# Altium footprint library Diode.PcbLib: 23 footprints (part 2 of 2)
Each footprint in its own frame and in the unit in brackets; x right, y up, seen from the top. Pads: shape width x height; smd on the part's side, far side on the other; paste and mask are expansions set on the pad; w line width, h text height; cw(c..) or ccw(c..) is an arc to the next point about the centre after c.
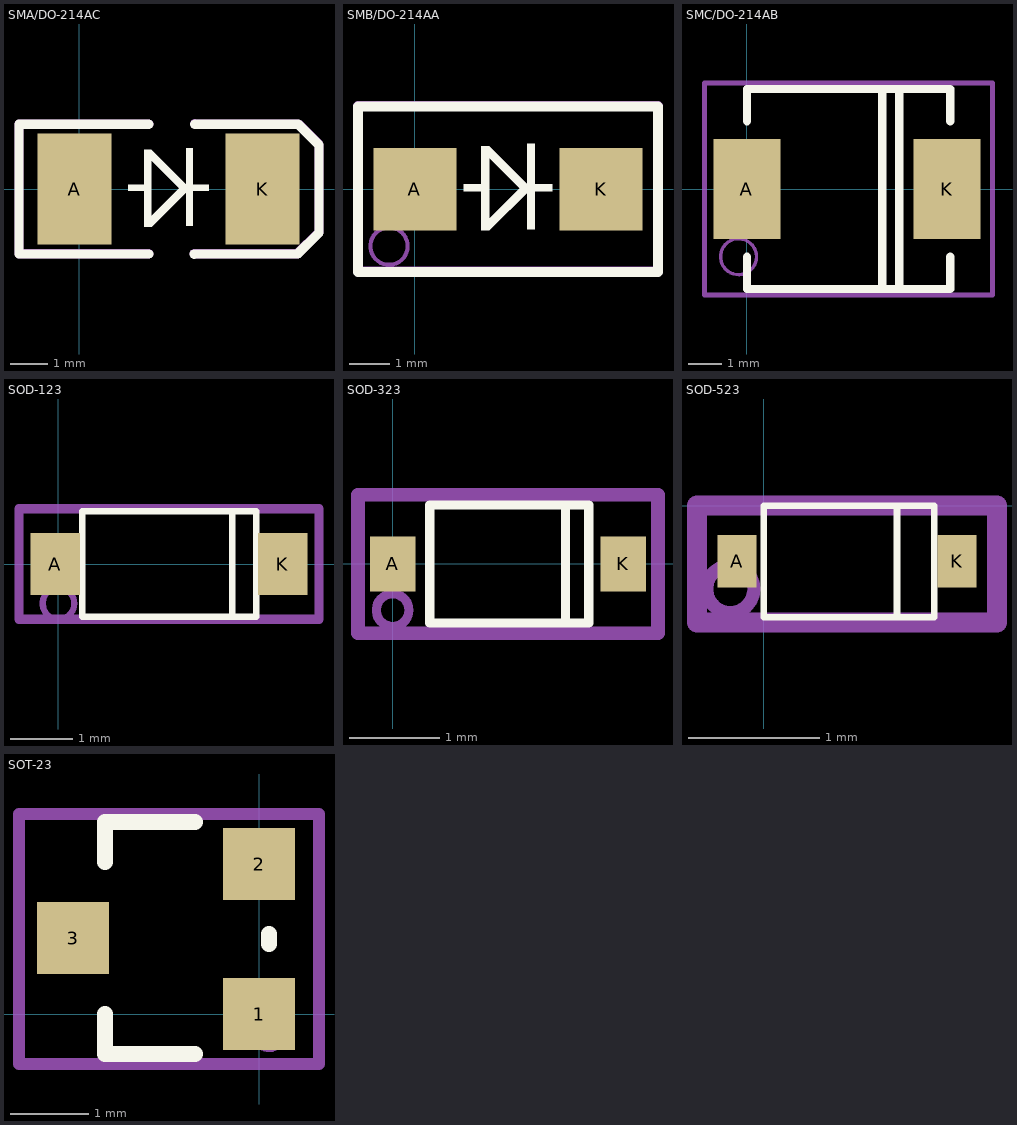
[diagram p1: the footprints below, top view; thin cyan lines are the x and y axes]

## SMA/DO-214AC [mm] "塑封二极管"
pads (2):
  rect 2x3 smd: A(-0.127,0) K(4.953,0)
Top Overlay:
  region: 3.505,-0.051 3.505,0.127 3.023,0.127 3.023,-0.051
  region: 2.808,-0.091 2.961,0.062 1.956,1.067 1.803,0.914
  region: 1.778,-0.051 1.778,0.127 1.321,0.127 1.321,-0.051
  rectangle: 2.883,-0.991 3.073,1.118
  rectangle: 1.753,-1.016 1.956,1.067
  region: 2.962,-0.012 2.809,0.141 1.804,-0.864 1.957,-1.017
  lines w0.254: 1.873,-1.75 -1.627,-1.75 -1.627,1.75 1.873,1.75 ; 3.103,-1.753 3.105,-1.75 5.668,-1.75 5.899,-1.75 6.456,-1.194 6.477,-1.172 6.477,1.194 5.921,1.75 5.69,1.75 3.127,1.75 3.124,1.753
Mechanical 29:
  lines w0.254: 1.873,-1.738 -1.627,-1.738 -1.627,1.762 1.873,1.762 ; 3.103,-1.741 3.105,-1.738 5.668,-1.738 5.899,-1.738 6.456,-1.182 6.477,-1.161 6.477,1.205 5.921,1.762 5.69,1.762 3.127,1.762 3.124,1.764
  text "'.Designator'" at -1.27,-0.889 h1.02
3D body "DO-214AC.STEP": height 2.4, standoff 0, extent 0.113,-1.35 4.713,1.35

## SMB/DO-214AA [mil] "塑封二极管"
pads (2):
  rect 80x80 smd: A(0,0) K(180,0)
Top Overlay:
  region: 133,-2 133,5 114,5 114,-2
  region: 105.57,-3.58 111.58,2.42 72,42 65.99,35.99
  region: 65,-2 65,5 47,5 47,-2
  rectangle: 108.5,-39 116,44
  rectangle: 64,-40 72,42
  region: 111.61,-0.46 105.61,5.55 66.03,-34.03 72.04,-40.04
  lines w10: -55,-80 -55,80 235,80 235,-80 -55,-80
Mechanical 29:
  circle w3.94: c-25,-55 r18.03
  lines w10: -55,-79.54 235,-79.54 235,80.46 -55,80.46 -55,-79.54
3D body "DO-214AA.STEP": height 98.43, standoff 0, extent -20.24,-78.54 200.24,75

## SMC/DO-214AB [mm] "塑封二极管"
pads (2):
  rect 2x3 smd: A(0,0) K(6,0)
Top Overlay:
  lines w0.254: 0,-2.032 0,-3 6.096,-3 6.096,-2.032 ; 0,2.032 0,3 6.096,3 6.096,2.032 ; 4.064,-3 4.064,3 ; 4.572,-3 4.572,3
Mechanical 29:
  circle w0.1: c-0.254,-2.032 r0.539
  lines w0.152: -1.27,-3.175 -1.27,3.175 7.366,3.175 7.366,-3.175 -1.27,-3.175
  text "'.Designator'" at -0.889,-0.762 h1.02
3D body "DO-214AB.STEP": height 2.7, standoff 0, extent -1.012,-3.1 7.108,3.1

## SOD-123 [mm] "塑封二极管"
pads (2):
  rect 0.8x1 smd: A(-0.051,0) K(3.607,0)
Top Overlay:
  lines w0.1: 2.794,-0.85 2.794,0.85 ; 0.381,-0.85 0.381,0.85 3.181,0.85 3.181,-0.85 0.381,-0.85
Mechanical 29:
  circle w0.1: c0,-0.635 r0.254
  lines w0.152: -0.635,-0.889 4.191,-0.889 4.191,0.889 -0.635,0.889 -0.635,-0.889
  text "'.Designator'" at -0.254,-0.635 h0.76
3D body "SOD-123_DiodesInc.STEP": height 1.43, standoff -0.02, extent -0.122,-0.889 3.728,0.811

## SOD-323 [mm] "塑封二极管"
pads (2):
  rect 0.5x0.6 smd: A(0,0) K(2.54,0)
Top Overlay:
  lines w0.1: 1.905,-0.651 1.905,0.649 ; 0.409,-0.651 2.157,-0.651 2.159,-0.649 2.159,0.649 0.409,0.649 0.409,-0.651
Mechanical 29:
  circle w0.1: c0,-0.508 r0.18
  lines w0.152: -0.381,-0.762 2.921,-0.762 2.921,0.762 -0.381,0.762 -0.381,-0.762
  text "'.Designator'" at 0.18,-0.508 h0.64
3D body "SOD323.STEP": height 0.9, standoff -0.09, extent 0.02,-0.635 2.52,0.615

## SOD-523 [mm] "塑封二极管"
pads (2):
  rect 0.3x0.4 smd: A(-0.203,-0.425) K(1.473,-0.425)
Top Overlay:
  lines w0.05: 1.016,-0.85 1.016,0 ; 0,-0.85 1.3,-0.85 1.3,0 0,0 0,-0.85
Mechanical 29:
  circle w0.1: c-0.254,-0.635 r0.18
  lines w0.152: -0.508,-0.889 -0.508,0 1.778,0 1.778,-0.889 -0.508,-0.889
  text "'.Designator'" at -0.127,-0.889 h0.51
3D body "SOD-523.STEP": height 0.65, standoff 0, extent -0.165,-0.832 1.435,-0.032

## SOT-23 [mil]
pads (3):
  rrect0% 36x36 smd: 1(0,0) 2(0,75) 3(-93,38)
Top Overlay:
  lines w8: -77,0 -77,-20 -32,-20 ; -77,76 -77,96 -32,96 ; 5,35 5,40
Mechanical 29:
  circle w3.94: c5,-10 r7.07
  lines w6: -120,-25 30,-25 30,100 -120,100 -120,-25
  text "'.Designator'" at -120,15 h30
3D body "SOT-23-3.STEP": height 47.24, standoff 0, extent -102.36,-19.68 7.87,94.49